# EAGLE library part NC7WZ07P6X (library NC7WZ07P6X)
Over-Voltage Tolerant Inputs Facilitate 5V to 3V Translation ; Ultra-Small MicroPak Packages; Proprietay Noise/EMI Reduction Circuitry ; Ultra-High Speed: tPZL 2.3ns (Typical) ; Power Down High Iimpedance Inputs/Outputs ; High IOL Output Drive: +24mA at 3V VCC ; Broad VCC Operating Range: 1.65V to 5.5V Source: Datasheet <https://www.onsemi.com/pub/Collateral/NC7WZ07-D.PDF>
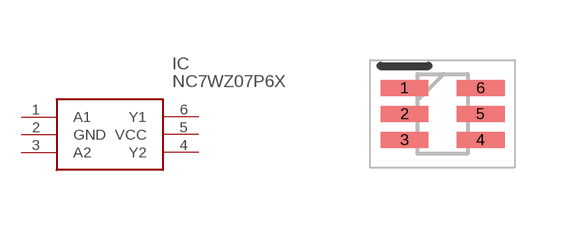
[diagram p0: symbol with the pads of SOT65P210X110-6N; footprint SOT65P210X110-6N]

Designator prefix IC

## NC7WZ07P6X (Description: Over-Voltage Tolerant Inputs Facilitate 5V to 3V Translation ; Ultra-Small MicroPak Packages; Proprietay Noise/EMI Reduction Circuitry ; Ultra-High Speed: tPZL 2.3ns (Typical) ; Power Down High Iimpedance Inputs/Outputs ; High IOL Output Drive: +24mA at 3V VCC ; Broad VCC Operating Range: 1.65V to 5.5V; Height: 1.1mm; Manufacturer_Name: onsemi; Manufacturer_Part_Number: NC7WZ07P6X; Mouser_Part_Number: 512-NC7WZ07P6X; Mouser_Price-Stock: https://www.mouser.co.uk/ProductDetail/onsemi-Fairchild/NC7WZ07P6X?qs=utFvTgNEmG4U5hUjGf3BdQ%3D%3D)  [SOT65P210X110-6N]
1  A1
2  GND
3  A2
4  Y2
5  VCC
6  Y1

## Footprint SOT65P210X110-6N (pad centres in mm)
NC7WZ07P6
smd 1.2 x 0.4: 1 -0.95,0.65; 2 -0.95,0; 3 -0.95,-0.65; 4 0.95,-0.65; 5 0.95,0; 6 0.95,0.65